# EAGLE library part TPS65131 (library mmoretti)
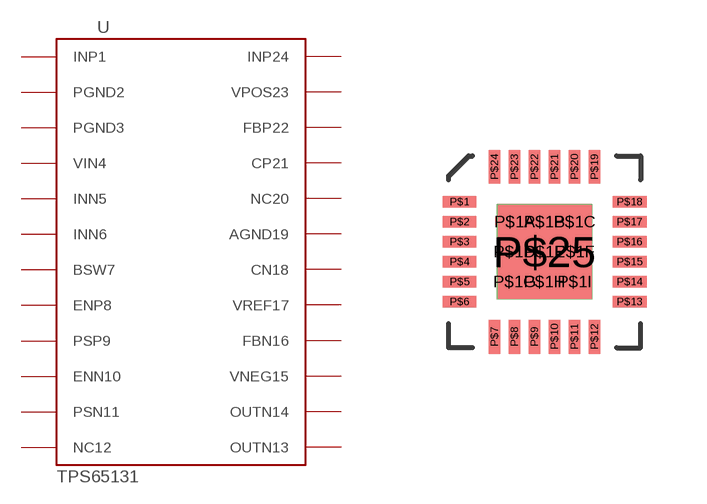
[diagram p20: symbol with the pads of VQFN-24-WPAD; footprint VQFN-24-WPAD]

Designator prefix -

## TPS65131  [VQFN-24-WPAD]
P$1  INP1  pwr
P$1A  PGND2  pwr
P$1B  PGND2  pwr
P$1C  PGND2  pwr
P$1D  PGND2  pwr
P$1E  PGND2  pwr
P$1F  PGND2  pwr
P$1G  PGND2  pwr
P$1H  PGND2  pwr
P$1I  PGND2  pwr
P$2  PGND2  pwr
P$3  PGND3  pwr
P$4  VIN4  pwr
P$5  INN5  pwr
P$6  INN6  pwr
P$7  BSW7
P$8  ENP8
P$9  PSP9
P$10  ENN10
P$11  PSN11
P$12  NC12  nc
P$13  OUTN13  pwr
P$14  OUTN14  pwr
P$15  VNEG15
P$16  FBN16  pas
P$17  VREF17  pas
P$18  CN18  pas
P$19  AGND19  pwr
P$20  NC20  nc
P$21  CP21  pas
P$22  FBP22  pas
P$23  VPOS23  pwr
P$24  INP24  pwr
P$25  PGND2  pwr

## Footprint VQFN-24-WPAD (pad centres in mm)
smd 0.85 x 0.28: P$1 -2.125,1.25; P$2 -2.125,0.75; P$3 -2.125,0.25; P$4 -2.125,-0.25; P$5 -2.125,-0.75; P$6 -2.125,-1.25; P$13 2.125,-1.25; P$14 2.125,-0.75; P$15 2.125,-0.25; P$16 2.125,0.25; P$17 2.125,0.75; P$18 2.125,1.25
drill 0.381 pad 0.75 square: P$1A -0.75,0.75; P$1B 0,0.75; P$1C 0.75,0.75; P$1D -0.75,0; P$1E 0,0; P$1F 0.75,0; P$1G -0.75,-0.75; P$1H 0,-0.75; P$1I 0.75,-0.75
smd 0.28 x 0.85: P$7 -1.25,-2.125; P$8 -0.75,-2.125; P$9 -0.25,-2.125; P$10 0.25,-2.125; P$11 0.75,-2.125; P$12 1.25,-2.125; P$19 1.25,2.125; P$20 0.75,2.125; P$21 0.25,2.125; P$22 -0.25,2.125; P$23 -0.75,2.125; P$24 -1.25,2.125
smd 2.35 x 2.35: P$25 0,0